# EAGLE library part ANT_SWITCH (library GW-devices)
Antenna Switch
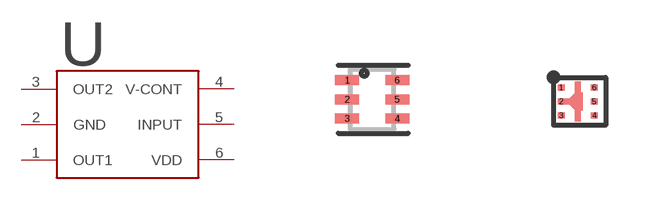
[diagram p10: symbol with the pads of MINIMOLD; footprints MINIMOLD, TSSON]

Designator prefix -

## ANT_SWITCH-UPG2012TK  [MINIMOLD]
1  OUT1
2  GND
3  OUT2
4  V-CONT
5  INPUT
6  VDD

## ANT_SWITCH-UPG2158T5K  [TSSON]
Pads as for MINIMOLD

## Footprint MINIMOLD (pad centres in mm)
smd 0.6 x 0.25: 1 -0.625,0.48; 2 -0.625,0; 3 -0.625,-0.48; 4 0.625,-0.48; 5 0.625,0; 6 0.625,0.48

## Footprint TSSON (pad centres in mm)
smd 0.175 x 0.15: 1 -0.412,0.35; 2 -0.412,0; 3 -0.412,-0.35; 4 0.412,-0.35; 5 0.412,0; 6 0.412,0.35